# Altium schematic symbol library tpd2e001_dry.SchLib: 1 symbol
Pins are listed as number, name and electrical type; pins without a type are passive.

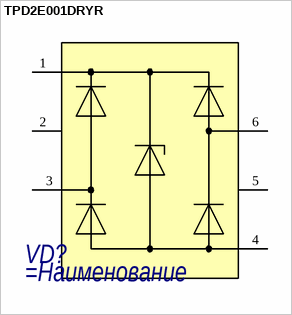
[diagram p0: symbol TPD2E001DRYR]

## TPD2E001DRYR
designator VD?
=Описание
pins: 1 VCC, 2 NC, 3 IO1, 4 GND, 5 NC, 6 IO2